# Altium schematic symbol library Fasteners & Fixings.SchLib: 7 symbols
Pins are listed as number, name and electrical type; pins without a type are passive.

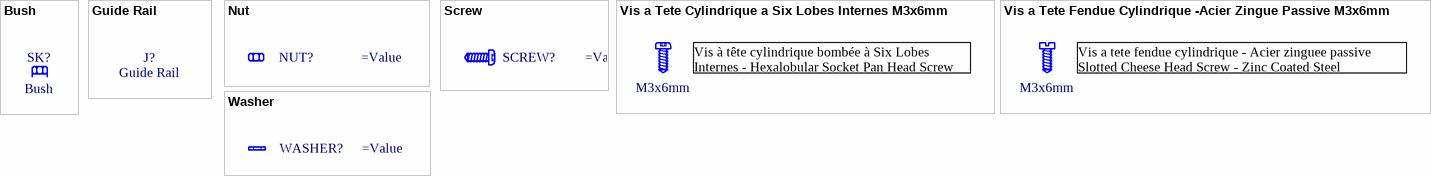
[diagram p0: symbols Bush to Washer]

## Bush
designator SK?

## Guide Rail
designator J?

## Nut
designator NUT?
Nut

## Screw
designator SCREW?
Screw

## Vis a Tete Cylindrique a Six Lobes Internes M3x6mm
designator ?  (value not drawn)  (mechanical)
Vis a Tete Cylindrique a Six Lobes Internes
text: Vis à tête cylindrique bombée à Six Lobes Internes - Hexalobular Socket Pan Head Screw; M3x6mm

## Vis a Tete Fendue Cylindrique -Acier Zingue Passive M3x6mm
designator ?  (value not drawn)  (mechanical)
Vis a Tete Fendue Cylindrique -Acier Zingue M3x6mm
text: Vis a tete fendue cylindrique - Acier zinguee passive / Slotted Cheese Head Screw - Zinc Coated Steel PASSIVATED; M3x6mm

## Washer
designator WASHER?
Washer